# Altium footprint library DRV8316CTRGFR.PcbLib: 3 footprints
Each footprint in its own frame and in the unit in brackets; x right, y up, seen from the top. Pads: shape width x height; smd on the part's side, far side on the other; paste and mask are expansions set on the pad; w line width, h text height; cw(c..) or ccw(c..) is an arc to the next point about the centre after c.
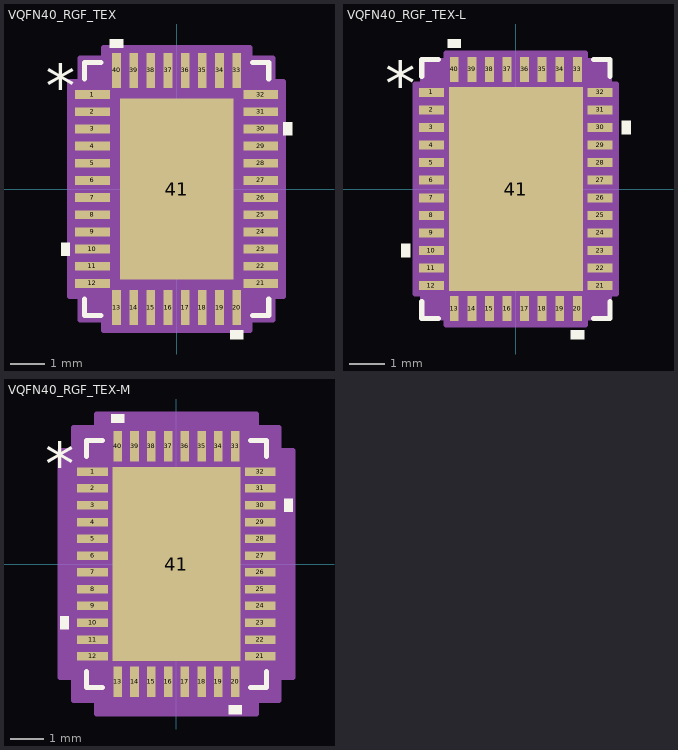
[diagram p0: the footprints below, top view; thin cyan lines are the x and y axes]

## VQFN40_RGF_TEX [mil]
pads (41):
  rect 40x10 smd paste+0 mask+0: 1(-96.5,108.3) 2(-96.5,88.61) 3(-96.5,68.92) 4(-96.5,49.23) 5(-96.5,29.54) 6(-96.5,9.85) 7(-96.5,-9.85) 8(-96.5,-29.54) 9(-96.5,-49.23) 10(-96.5,-68.92) 11(-96.5,-88.61) 12(-96.5,-108.3) 21(96.5,-108.3) 22(96.5,-88.61) 23(96.5,-68.92) 24(96.5,-49.23) 25(96.5,-29.54) 26(96.5,-9.85) 27(96.5,9.85) 28(96.5,29.54) 29(96.5,49.23) 30(96.5,68.92) 31(96.5,88.61) 32(96.5,108.3)
  rect 10x40 smd paste+0 mask+0: 13(-68.92,-136) 14(-49.23,-136) 15(-29.54,-136) 16(-9.85,-136) 17(9.85,-136) 18(29.54,-136) 19(49.23,-136) 20(68.92,-136) 33(68.92,136) 34(49.23,136) 35(29.54,136) 36(9.85,136) 37(-9.85,136) 38(-29.54,136) 39(-49.23,136) 40(-68.92,136)
  rect 130x208 smd paste-113.5 mask+0: 41(0,0)
Top Overlay:
  region: -61.41,162 -76.42,162 -76.42,172 -61.41,172
  region: 122.5,76.42 132.5,76.42 132.5,61.41 122.5,61.41
  region: 76.42,-162 61.41,-162 61.41,-172 76.42,-172
  region: -122.5,-61.41 -132.5,-61.41 -132.5,-76.42 -122.5,-76.42
  lines w6: -105.5,-126.39 -105.5,-145 -87.02,-145 ; -105.5,126.39 -105.5,145 -87.02,145 ; 87.02,-145 105.5,-145 105.5,-126.39 ; 87.02,145 105.5,145 105.5,126.39
  text "*" at -150,93.14 h50
Top Paste:
  region: 12.5,-7.5 -12.5,-7.5 -12.5,-42.5 12.5,-42.5
  region: 55,-57.5 30,-57.5 30,-92.5 55,-92.5
  region: -30,-57.5 -55,-57.5 -55,-92.5 -30,-92.5
  region: 12.5,-57.5 -12.5,-57.5 -12.5,-92.5 12.5,-92.5
  region: -30,-7.5 -55,-7.5 -55,-42.5 -30,-42.5
  region: 55,-7.5 30,-7.5 30,-42.5 55,-42.5
  region: 12.5,42.5 -12.5,42.5 -12.5,7.5 12.5,7.5
  region: 55,42.5 30,42.5 30,7.5 55,7.5
  region: -30,42.5 -55,42.5 -55,7.5 -30,7.5
  region: -30,92.5 -55,92.5 -55,57.5 -30,57.5
  region: 12.5,92.5 -12.5,92.5 -12.5,57.5 12.5,57.5
  region: 55,92.5 30,92.5 30,57.5 55,57.5
Mechanical 13:
  lines w1: -100.5,90 -50.5,140 ; -100.5,-140 -100.5,140 100.5,140 100.5,-140 -100.5,-140 ; -100.5,-114.3 -100.5,-102.3 -100.5,-114.3 ; -100.5,-94.61 -100.5,-82.61 -100.5,-94.61 ; -100.5,-74.92 -100.5,-62.91 -100.5,-74.92 ; -100.5,-55.23 -100.5,-43.23 -100.5,-55.23 ; -100.5,-35.53 -100.5,-23.54 -100.5,-35.53 ; -100.5,-15.85 -100.5,-3.85 -100.5,-15.85 ; -100.5,3.85 -100.5,15.85 -100.5,3.85 ; -100.5,23.54 -100.5,35.53 -100.5,23.54 ; -100.5,43.23 -100.5,55.23 -100.5,43.23 ; -100.5,62.91 -100.5,74.92 -100.5,62.91 ; -100.5,82.61 -100.5,94.61 -100.5,82.61 ; -100.5,102.3 -100.5,114.3 -100.5,102.3 ; -74.92,-140 -62.91,-140 -74.92,-140 ; -74.92,140 -62.91,140 -74.92,140 ; -55.23,-140 -43.23,-140 -55.23,-140 ; -55.23,140 -43.23,140 -55.23,140 ; -35.53,-140 -23.54,-140 -35.53,-140 ; -35.53,140 -23.54,140 -35.53,140 ; -15.85,-140 -3.85,-140 -15.85,-140 ; -15.85,140 -3.85,140 -15.85,140 ; 3.85,-140 15.85,-140 3.85,-140 ; 3.85,140 15.85,140 3.85,140 ; 23.54,-140 35.53,-140 23.54,-140 ; 23.54,140 35.53,140 23.54,140 ; 43.23,-140 55.23,-140 43.23,-140 ; 43.23,140 55.23,140 43.23,140 ; 62.91,-140 74.92,-140 62.91,-140 ; 62.91,140 74.92,140 62.91,140 ; 100.5,-114.3 100.5,-102.3 100.5,-114.3 ; 100.5,-94.61 100.5,-82.61 100.5,-94.61 ; 100.5,-74.92 100.5,-62.91 100.5,-74.92 ; 100.5,-55.23 100.5,-43.23 100.5,-55.23 ; 100.5,-35.53 100.5,-23.54 100.5,-35.53 ; 100.5,-15.85 100.5,-3.85 100.5,-15.85 ; 100.5,3.85 100.5,15.85 100.5,3.85 ; 100.5,23.54 100.5,35.53 100.5,23.54 ; 100.5,43.23 100.5,55.23 100.5,43.23 ; 100.5,62.91 100.5,74.92 100.5,62.91 ; 100.5,82.61 100.5,94.61 100.5,82.61 ; 100.5,102.3 100.5,114.3 100.5,102.3
  text "*" at -93,93.14 h50
Mechanical 15:
  region: -83.92,-150 -110.5,-150 -110.5,-123.3 -122.5,-123.3 -122.5,123.3 -110.5,123.3 -110.5,150 -83.92,150 -83.92,162 83.92,162 83.92,150 110.5,150 110.5,123.3 122.5,123.3 122.5,-123.3 110.5,-123.3 110.5,-150 83.92,-150 83.92,-162 -83.92,-162
  lines w6: -122.5,-123.3 -122.5,123.3 -110.5,123.3 -110.5,150 -83.92,150 -83.92,162 83.92,162 83.92,150 110.5,150 110.5,123.3 122.5,123.3 122.5,-123.3 110.5,-123.3 110.5,-150 83.92,-150 83.92,-162 -83.92,-162 -83.92,-150 -110.5,-150 -110.5,-123.3 -122.5,-123.3
3D body "VQFN40_RGF_TEX.step": height 39.09, standoff 0, extent -100.51,-140 100.51,140

## VQFN40_RGF_TEX-L [mil]
pads (41):
  rect 28x10 smd paste+0 mask+0: 1(-94.5,108.3) 2(-94.5,88.61) 3(-94.5,68.92) 4(-94.5,49.23) 5(-94.5,29.54) 6(-94.5,9.85) 7(-94.5,-9.85) 8(-94.5,-29.54) 9(-94.5,-49.23) 10(-94.5,-68.92) 11(-94.5,-88.61) 12(-94.5,-108.3) 21(94.5,-108.3) 22(94.5,-88.61) 23(94.5,-68.92) 24(94.5,-49.23) 25(94.5,-29.54) 26(94.5,-9.85) 27(94.5,9.85) 28(94.5,29.54) 29(94.5,49.23) 30(94.5,68.92) 31(94.5,88.61) 32(94.5,108.3)
  rect 10x28 smd paste+0 mask+0: 13(-68.92,-134) 14(-49.23,-134) 15(-29.54,-134) 16(-9.85,-134) 17(9.85,-134) 18(29.54,-134) 19(49.23,-134) 20(68.92,-134) 33(68.92,134) 34(49.23,134) 35(29.54,134) 36(9.85,134) 37(-9.85,134) 38(-29.54,134) 39(-49.23,134) 40(-68.92,134)
  rect 150x228 smd paste-113.5 mask+0: 41(0,0)
Top Overlay:
  region: -118.5,-61.41 -128.5,-61.41 -128.5,-76.42 -118.5,-76.42
  region: 76.42,-158 61.41,-158 61.41,-168 76.42,-168
  region: 118.5,76.42 128.5,76.42 128.5,61.41 118.5,61.41
  region: -61.41,158 -76.42,158 -76.42,168 -61.41,168
  lines w6: -105.5,-126.39 -105.5,-145 -87.02,-145 ; -105.5,126.39 -105.5,145 -87.02,145 ; 87.02,-145 105.5,-145 105.5,-126.39 ; 87.02,145 105.5,145 105.5,126.39
  text "*" at -146,93.14 h50
Top Paste:
  region: -28.94,110.06 -71.06,110.06 -71.06,60.94 -28.94,60.94
  region: -28.94,53.06 -71.06,53.06 -71.06,3.94 -28.94,3.94
  region: -28.94,-3.94 -71.06,-3.94 -71.06,-53.06 -28.94,-53.06
  region: -28.94,-60.94 -71.06,-60.94 -71.06,-110.06 -28.94,-110.06
  region: 21.06,110.06 -21.06,110.06 -21.06,60.94 21.06,60.94
  region: 21.06,53.06 -21.06,53.06 -21.06,3.94 21.06,3.94
  region: 21.06,-3.94 -21.06,-3.94 -21.06,-53.06 21.06,-53.06
  region: 21.06,-60.94 -21.06,-60.94 -21.06,-110.06 21.06,-110.06
  region: 71.06,110.06 28.94,110.06 28.94,60.94 71.06,60.94
  region: 71.06,53.06 28.94,53.06 28.94,3.94 71.06,3.94
  region: 71.06,-3.94 28.94,-3.94 28.94,-53.06 71.06,-53.06
  region: 71.06,-60.94 28.94,-60.94 28.94,-110.06 71.06,-110.06
Mechanical 13:
  drawing of 169 lines, arcs and shapes, not listed
  text "*" at -93,93.14 h50
Mechanical 15:
  region: -77.92,-144 -104.5,-144 -104.5,-117.3 -112.5,-117.3 -112.5,117.3 -104.5,117.3 -104.5,144 -77.92,144 -77.92,152 77.92,152 77.92,144 104.5,144 104.5,117.3 112.5,117.3 112.5,-117.3 104.5,-117.3 104.5,-144 77.92,-144 77.92,-152 -77.92,-152
  lines w6: -112.5,-117.3 -104.5,-117.3 -104.5,-144 -77.92,-144 -77.92,-152 77.92,-152 77.92,-144 104.5,-144 104.5,-117.3 112.5,-117.3 112.5,117.3 104.5,117.3 104.5,144 77.92,144 77.92,152 -77.92,152 -77.92,144 -104.5,144 -104.5,117.3 -112.5,117.3 -112.5,-117.3
3D body "VQFN40_RGF_TEX.step": height 39.09, standoff 0, extent -100.51,-140 100.51,140

## VQFN40_RGF_TEX-M [mil]
pads (41):
  rect 36x10 smd paste+0 mask+0: 1(-98.5,108.3) 2(-98.5,88.61) 3(-98.5,68.92) 4(-98.5,49.23) 5(-98.5,29.54) 6(-98.5,9.85) 7(-98.5,-9.85) 8(-98.5,-29.54) 9(-98.5,-49.23) 10(-98.5,-68.92) 11(-98.5,-88.61) 12(-98.5,-108.3) 21(98.5,-108.3) 22(98.5,-88.61) 23(98.5,-68.92) 24(98.5,-49.23) 25(98.5,-29.54) 26(98.5,-9.85) 27(98.5,9.85) 28(98.5,29.54) 29(98.5,49.23) 30(98.5,68.92) 31(98.5,88.61) 32(98.5,108.3)
  rect 10x36 smd paste+0 mask+0: 13(-68.92,-138) 14(-49.23,-138) 15(-29.54,-138) 16(-9.85,-138) 17(9.85,-138) 18(29.54,-138) 19(49.23,-138) 20(68.92,-138) 33(68.92,138) 34(49.23,138) 35(29.54,138) 36(9.85,138) 37(-9.85,138) 38(-29.54,138) 39(-49.23,138) 40(-68.92,138)
  rect 150x228 smd paste-113.5 mask+0: 41(0,0)
Top Overlay:
  region: -126.5,-61.41 -136.5,-61.41 -136.5,-76.42 -126.5,-76.42
  region: 76.42,-166 61.41,-166 61.41,-176 76.42,-176
  region: 126.5,76.42 136.5,76.42 136.5,61.41 126.5,61.41
  region: -61.41,166 -76.42,166 -76.42,176 -61.41,176
  lines w6: -105.5,-126.39 -105.5,-145 -87.02,-145 ; -105.5,126.39 -105.5,145 -87.02,145 ; 87.02,-145 105.5,-145 105.5,-126.39 ; 87.02,145 105.5,145 105.5,126.39
  text "*" at -154,93.14 h50
Top Paste:
  region: -28.94,110.06 -71.06,110.06 -71.06,60.94 -28.94,60.94
  region: -28.94,53.06 -71.06,53.06 -71.06,3.94 -28.94,3.94
  region: -28.94,-3.94 -71.06,-3.94 -71.06,-53.06 -28.94,-53.06
  region: -28.94,-60.94 -71.06,-60.94 -71.06,-110.06 -28.94,-110.06
  region: 21.06,110.06 -21.06,110.06 -21.06,60.94 21.06,60.94
  region: 21.06,53.06 -21.06,53.06 -21.06,3.94 21.06,3.94
  region: 21.06,-3.94 -21.06,-3.94 -21.06,-53.06 21.06,-53.06
  region: 21.06,-60.94 -21.06,-60.94 -21.06,-110.06 21.06,-110.06
  region: 71.06,110.06 28.94,110.06 28.94,60.94 71.06,60.94
  region: 71.06,53.06 28.94,53.06 28.94,3.94 71.06,3.94
  region: 71.06,-3.94 28.94,-3.94 28.94,-53.06 71.06,-53.06
  region: 71.06,-60.94 28.94,-60.94 28.94,-110.06 71.06,-110.06
Mechanical 13:
  drawing of 169 lines, arcs and shapes, not listed
  text "*" at -93,93.14 h50
Mechanical 15:
  region: -93.92,-160 -120.5,-160 -120.5,-133.29 -136.5,-133.29 -136.5,133.29 -120.5,133.29 -120.5,160 -93.92,160 -93.92,176 93.92,176 93.92,160 120.5,160 120.5,133.29 136.5,133.29 136.5,-133.29 120.5,-133.29 120.5,-160 93.92,-160 93.92,-176 -93.92,-176
  lines w6: -136.5,-133.29 -120.5,-133.29 -120.5,-160 -93.92,-160 -93.92,-176 93.92,-176 93.92,-160 120.5,-160 120.5,-133.29 136.5,-133.29 136.5,133.29 120.5,133.29 120.5,160 93.92,160 93.92,176 -93.92,176 -93.92,160 -120.5,160 -120.5,133.29 -136.5,133.29 -136.5,-133.29
3D body "VQFN40_RGF_TEX.step": height 39.09, standoff 0, extent -100.51,-140 100.51,140